# Altium integrated library Linear Technology PMIC-Switching Reg LT1074-LT8705.IntLib: 2252 symbols (part 78 of 124)
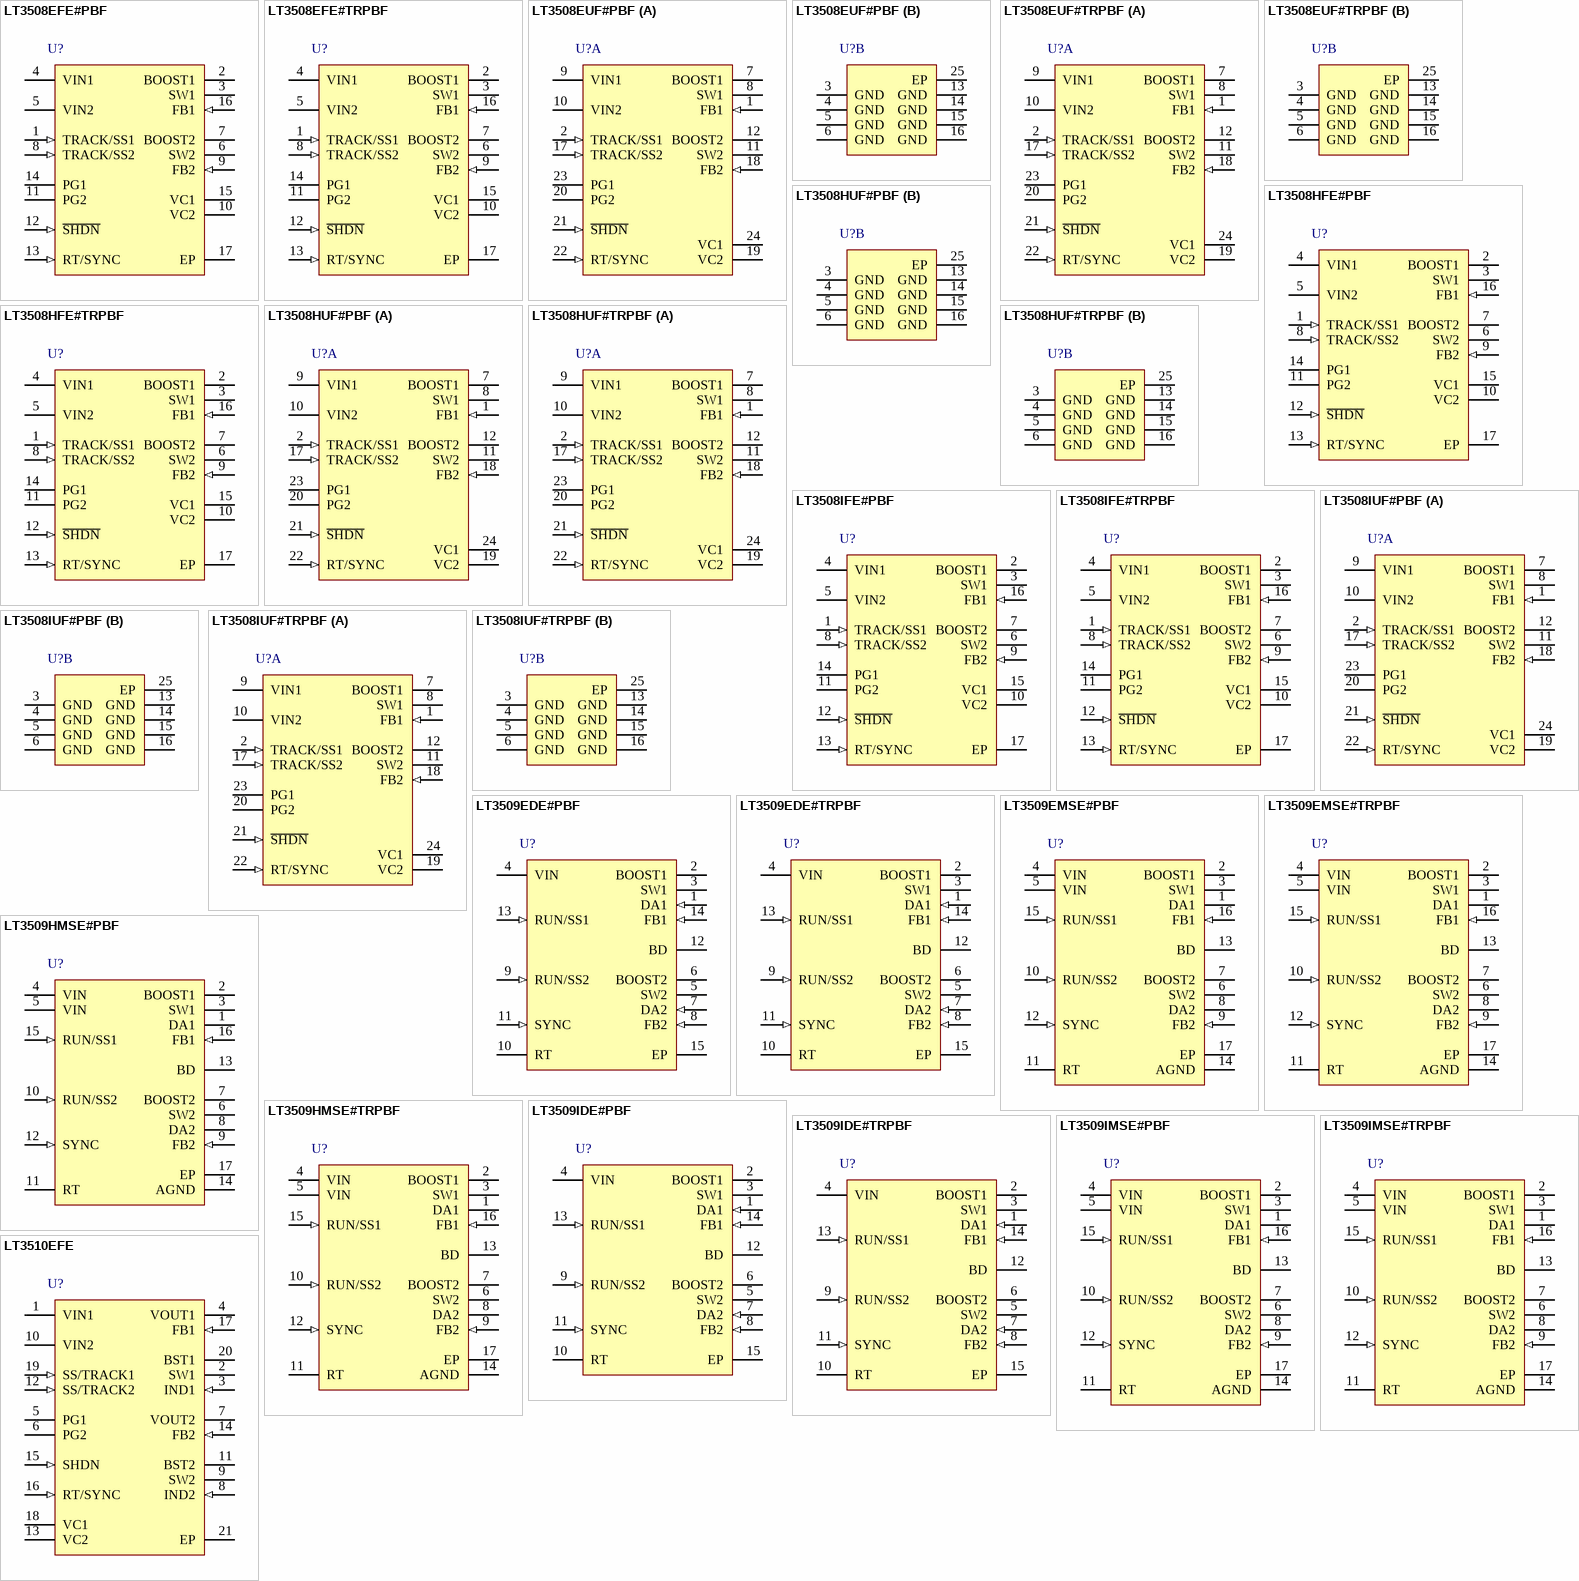
[diagram p148: symbols LT3508EFE#PBF to LT3510EFE]

## LT3510EFE
designator U?
Monolithic Dual Tracking 2 A Step-Down Switching Regulator, 20-pin SOP (FE-20-EPV-CB), -40 to 125 degC; Manufacturer: Linear Technology; PartNumber: LT3510EFE; Number of Outputs: 2; PackageReference: FE-20; PackageDescription: 20-Pin Plastic TSSOP, Body 6.5 x 4.4 mm, Pitch 0.65 mm; RoHS: FALSE
footprint LT-FE-20-EPV-CB_N (SOP, 20-Leads, Body 6.6x4.5mm, Pitch 0.65mm, Thermal Pad 3.86x2.74mm, IPC Medium Density)
footprint LT-FE-20-EPV-CB_L (SOP, 20-Leads, Body 6.6x4.5mm, Pitch 0.65mm, Thermal Pad 3.86x2.74mm, IPC High Density)
footprint LT-FE-20-EPV-CB_M (SOP, 20-Leads, Body 6.6x4.5mm, Pitch 0.65mm, Thermal Pad 3.86x2.74mm, IPC Low Density)
pins: 1 VIN1 (power) "The VIN1 pin powers the internal control circuitry for both channels and is monitored by the undervoltage lockout comparator. The VIN1 pin is also connected to the collector of channel 1’s on-chip power NPN switch. Th(See Datasheet)", 2 SW1 "The SW pin is the emitter of the onchip power NPN. At switch-off, the inductor will drive this pin below ground with a high dV/dt. An external Schottky catch diode to ground, close to the SW pin and respective VIN decoupling (See Datasheet)", 3 IND1 (in) "The IND pin is the input to the on-chip sense resistor that measures current flowing in the inductor. When the current in the resistor exceeds the current dictated by the VC pin, the SW latch is held in reset, disabling the (See Datasheet)", 4 VOUT1 (power) "The VOUT pin is the output to the on-chip sense resistor that measures current flowing in the inductor. When the current in the resistor exceeds the current dictated by the VC pin, the SW latch is held in reset, disabling (See Datasheet)", 5 PG1 (oc) "The power good pin is an open-collector output that sinks current when the feedback falls below 90% of its nominal regulating voltage. For VIN1 above 1V, its output state remains true, although during shutdown, VIN1 (See Datasheet)", 6 PG2 (oc) "The power good pin is an open-collector output that sinks current when the feedback falls below 90% of its nominal regulating voltage. For VIN1 above 1V, its output state remains true, although during shutdown, VIN1 (See Datasheet)", 7 VOUT2 (power) "The VOUT pin is the output to the on-chip sense resistor that measures current flowing in the inductor. When the current in the resistor exceeds the current dictated by the VC pin, the SW latch is held in reset, disabling (See Datasheet)", 8 IND2 (in) "The IND pin is the input to the on-chip sense resistor that measures current flowing in the inductor. When the current in the resistor exceeds the current dictated by the VC pin, the SW latch is held in reset, disabling the (See Datasheet)", 9 SW2 "The SW pin is the emitter of the onchip power NPN. At switch-off, the inductor will drive this pin below ground with a high dV/dt. An external Schottky catch diode to ground, close to the SW pin and respective VIN decoupling (See Datasheet)", 10 VIN2 (power) "The VIN2 pin is the collector of channel 2’s on-chip power NPN switch. This pin is independent of VIN1 and may be connected to the same or a separate supply. In either case, high dI/dt edges are present and decoupling t(See Datasheet)", 11 BST2 "The BST pin provides a higher than VIN base drive to the power NPN to ensure a low switch drop. A comparator to VIN imposes a minimum off-time on the SW pin if the BST pin voltage drops too low. Forcing a SW off-time allows (See Datasheet)", 12 SS/TRACK2 (in) "The SS1/2 pins control the softstart and sequence of their respective outputs. A single capacitor from the SS pin to ground determines the output ramp rate. For soft-start and output tracking/sequencing details, see the (See Datasheet)", 13 VC2 "The VC pin is the output of the error amplifier and the input to the peak switch current  comparator. It is normally used for frequency compensation, but can also be used as a current clamp or control loop override. If the (See Datasheet)", 14 FB2 (in) "The FB pin is the negative input to the error amplifier. The output switches regulate this pin to 0.8V, with respect to the exposed ground pad. Bias current flows out of the FB pin.", 15 SHDN (in) "The shutdown pin is used to turn off both channels and control circuitry to reduce quiescent current to a typical value of 9uA. The accurate 1.28V threshold and input current hysteresis can be used as an undervoltage (See Datasheet)", 16 RT/SYNC (in) "This RT/SYNC pin provides two modes of setting the constant switch frequency.", 17 FB1 (in) "The FB pin is the negative input to the error amplifier. The output switches regulate this pin to 0.8V, with respect to the exposed ground pad. Bias current flows out of the FB pin.", 18 VC1 "The VC pin is the output of the error amplifier and the input to the peak switch current  comparator. It is normally used for frequency compensation, but can also be used as a current clamp or control loop override. If the (See Datasheet)", 19 SS/TRACK1 (in) "The SS1/2 pins control the softstart and sequence of their respective outputs. A single capacitor from the SS pin to ground determines the output ramp rate. For soft-start and output tracking/sequencing details, see the (See Datasheet)", 20 BST1 "The BST pin provides a higher than VIN base drive to the power NPN to ensure a low switch drop. A comparator to VIN imposes a minimum off-time on the SW pin if the BST pin voltage drops too low. Forcing a SW off-time allows (See Datasheet)", 21 EP (power) "GND. The Exposed Pad GND pin is the only ground connection for the device. The Exposed Pad should be soldered to a large copper area to reduce thermal resistance. The GND pin is common to both channels and also serves as (See Datasheet)"

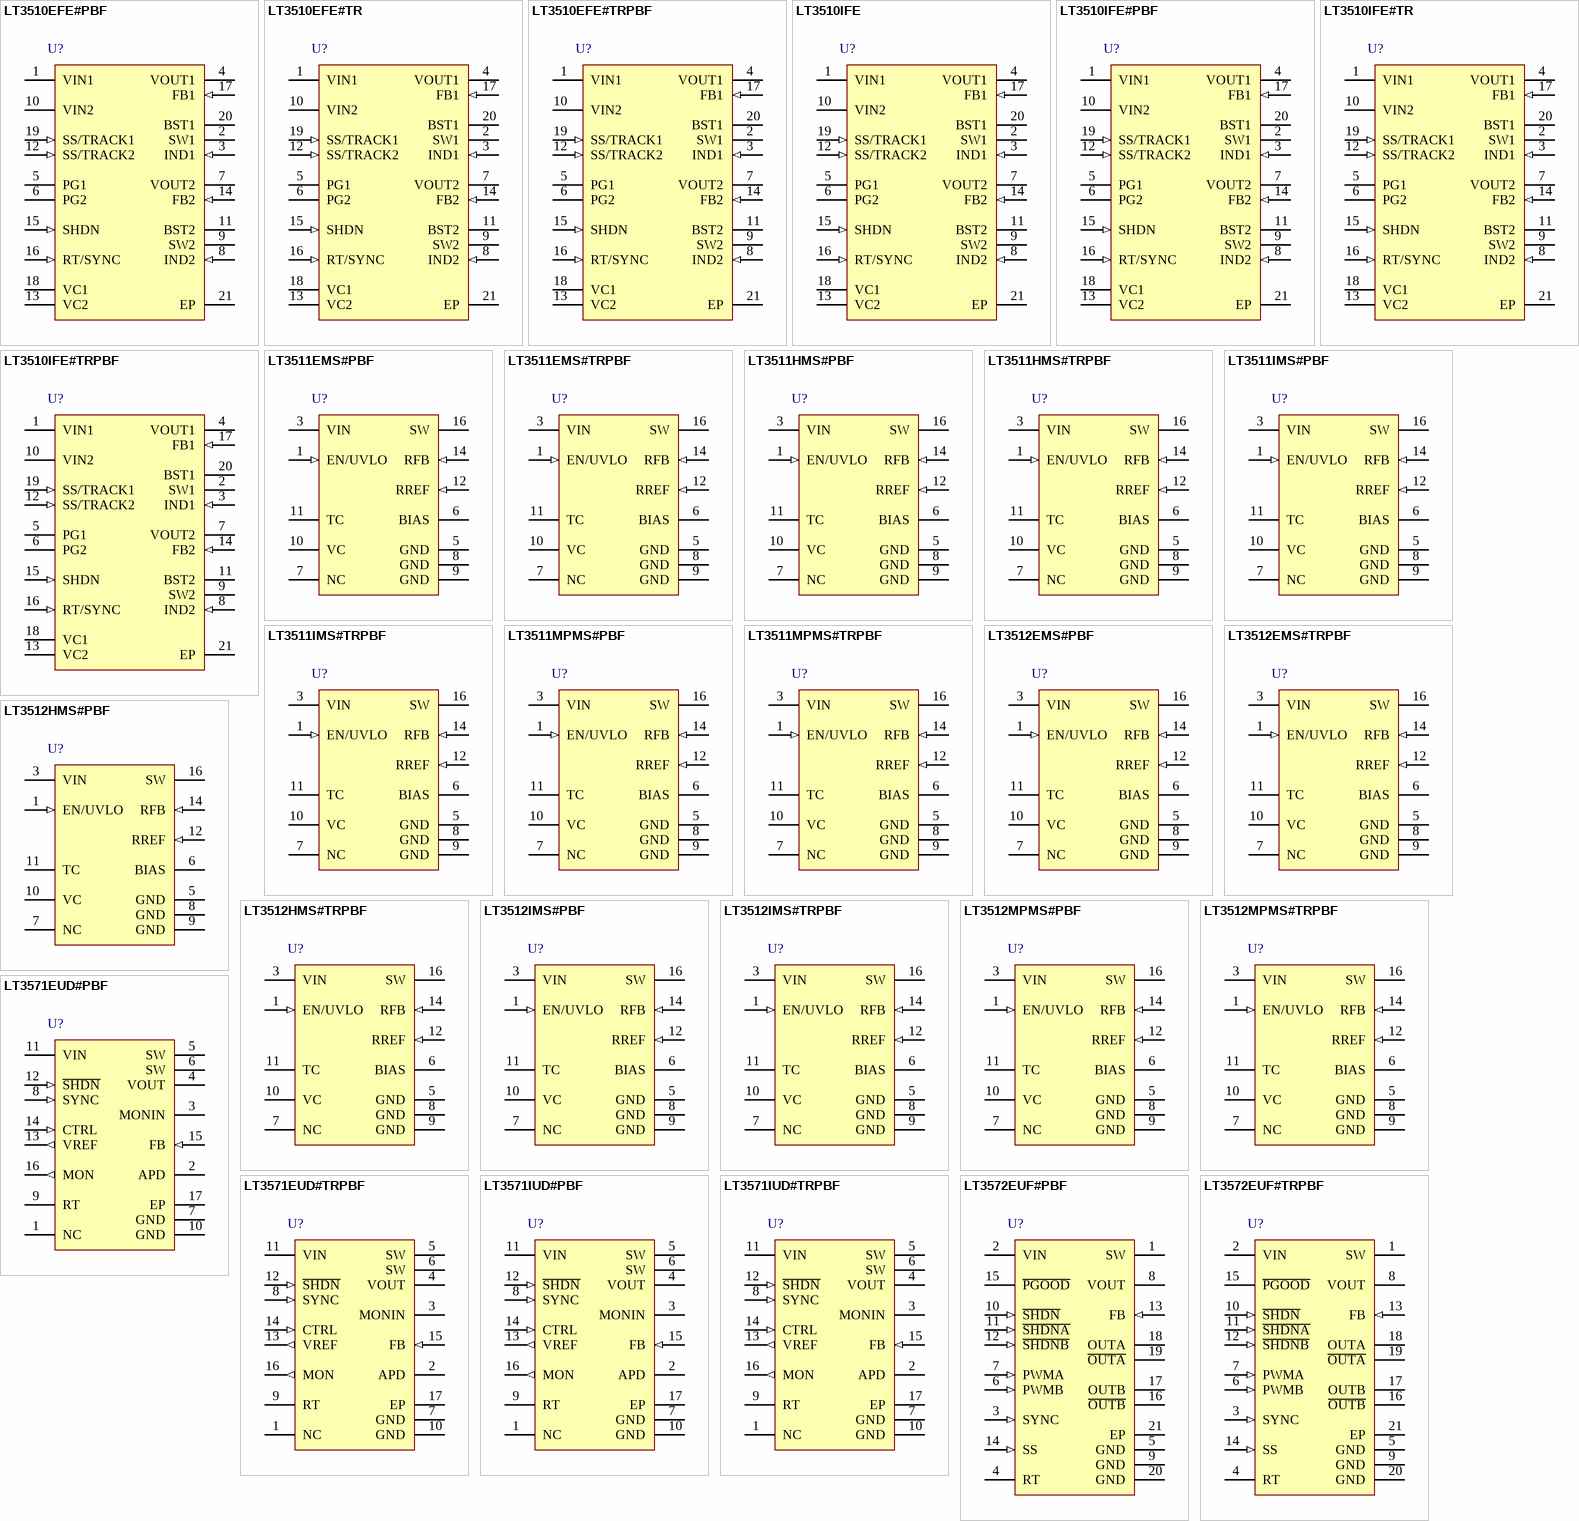
[diagram p47: symbols LT3510EFE#PBF to LT3572EUF#TRPBF]

## LT3510EFE#PBF
designator U?
Monolithic Dual Tracking 2 A Step-Down Switching Regulator, 20-pin SOP (FE-20-EPV-CB), -40 to 125 degC, Pb-Free; Manufacturer: Linear Technology; PartNumber: LT3510EFE#PBF; Number of Outputs: 2; PackageReference: FE-20; PackageDescription: 20-Pin Plastic TSSOP, Body 6.5 x 4.4 mm, Pitch 0.65 mm; Supplier 1: Digi-Key; Supplier Part Number 1: LT3510EFE#PBF-ND; RoHS: TRUE
footprint LT-FE-20-EPV-CB_N (SOP, 20-Leads, Body 6.6x4.5mm, Pitch 0.65mm, Thermal Pad 3.86x2.74mm, IPC Medium Density)
footprint LT-FE-20-EPV-CB_L (SOP, 20-Leads, Body 6.6x4.5mm, Pitch 0.65mm, Thermal Pad 3.86x2.74mm, IPC High Density)
footprint LT-FE-20-EPV-CB_M (SOP, 20-Leads, Body 6.6x4.5mm, Pitch 0.65mm, Thermal Pad 3.86x2.74mm, IPC Low Density)
pins: 1 VIN1 (power) "The VIN1 pin powers the internal control circuitry for both channels and is monitored by the undervoltage lockout comparator. The VIN1 pin is also connected to the collector of channel 1’s on-chip power NPN switch. Th(See Datasheet)", 2 SW1 "The SW pin is the emitter of the onchip power NPN. At switch-off, the inductor will drive this pin below ground with a high dV/dt. An external Schottky catch diode to ground, close to the SW pin and respective VIN decoupling (See Datasheet)", 3 IND1 (in) "The IND pin is the input to the on-chip sense resistor that measures current flowing in the inductor. When the current in the resistor exceeds the current dictated by the VC pin, the SW latch is held in reset, disabling the (See Datasheet)", 4 VOUT1 (power) "The VOUT pin is the output to the on-chip sense resistor that measures current flowing in the inductor. When the current in the resistor exceeds the current dictated by the VC pin, the SW latch is held in reset, disabling (See Datasheet)", 5 PG1 (oc) "The power good pin is an open-collector output that sinks current when the feedback falls below 90% of its nominal regulating voltage. For VIN1 above 1V, its output state remains true, although during shutdown, VIN1 (See Datasheet)", 6 PG2 (oc) "The power good pin is an open-collector output that sinks current when the feedback falls below 90% of its nominal regulating voltage. For VIN1 above 1V, its output state remains true, although during shutdown, VIN1 (See Datasheet)", 7 VOUT2 (power) "The VOUT pin is the output to the on-chip sense resistor that measures current flowing in the inductor. When the current in the resistor exceeds the current dictated by the VC pin, the SW latch is held in reset, disabling (See Datasheet)", 8 IND2 (in) "The IND pin is the input to the on-chip sense resistor that measures current flowing in the inductor. When the current in the resistor exceeds the current dictated by the VC pin, the SW latch is held in reset, disabling the (See Datasheet)", 9 SW2 "The SW pin is the emitter of the onchip power NPN. At switch-off, the inductor will drive this pin below ground with a high dV/dt. An external Schottky catch diode to ground, close to the SW pin and respective VIN decoupling (See Datasheet)", 10 VIN2 (power) "The VIN2 pin is the collector of channel 2’s on-chip power NPN switch. This pin is independent of VIN1 and may be connected to the same or a separate supply. In either case, high dI/dt edges are present and decoupling t(See Datasheet)", 11 BST2 "The BST pin provides a higher than VIN base drive to the power NPN to ensure a low switch drop. A comparator to VIN imposes a minimum off-time on the SW pin if the BST pin voltage drops too low. Forcing a SW off-time allows (See Datasheet)", 12 SS/TRACK2 (in) "The SS1/2 pins control the softstart and sequence of their respective outputs. A single capacitor from the SS pin to ground determines the output ramp rate. For soft-start and output tracking/sequencing details, see the (See Datasheet)", 13 VC2 "The VC pin is the output of the error amplifier and the input to the peak switch current  comparator. It is normally used for frequency compensation, but can also be used as a current clamp or control loop override. If the (See Datasheet)", 14 FB2 (in) "The FB pin is the negative input to the error amplifier. The output switches regulate this pin to 0.8V, with respect to the exposed ground pad. Bias current flows out of the FB pin.", 15 SHDN (in) "The shutdown pin is used to turn off both channels and control circuitry to reduce quiescent current to a typical value of 9uA. The accurate 1.28V threshold and input current hysteresis can be used as an undervoltage (See Datasheet)", 16 RT/SYNC (in) "This RT/SYNC pin provides two modes of setting the constant switch frequency.", 17 FB1 (in) "The FB pin is the negative input to the error amplifier. The output switches regulate this pin to 0.8V, with respect to the exposed ground pad. Bias current flows out of the FB pin.", 18 VC1 "The VC pin is the output of the error amplifier and the input to the peak switch current  comparator. It is normally used for frequency compensation, but can also be used as a current clamp or control loop override. If the (See Datasheet)", 19 SS/TRACK1 (in) "The SS1/2 pins control the softstart and sequence of their respective outputs. A single capacitor from the SS pin to ground determines the output ramp rate. For soft-start and output tracking/sequencing details, see the (See Datasheet)", 20 BST1 "The BST pin provides a higher than VIN base drive to the power NPN to ensure a low switch drop. A comparator to VIN imposes a minimum off-time on the SW pin if the BST pin voltage drops too low. Forcing a SW off-time allows (See Datasheet)", 21 EP (power) "GND. The Exposed Pad GND pin is the only ground connection for the device. The Exposed Pad should be soldered to a large copper area to reduce thermal resistance. The GND pin is common to both channels and also serves as (See Datasheet)"

## LT3510EFE#TR
designator U?
Monolithic Dual Tracking 2 A Step-Down Switching Regulator, 20-pin SOP (FE-20-EPV-CB), -40 to 125 degC, Tape and Reel; Manufacturer: Linear Technology; PartNumber: LT3510EFE#TR; Number of Outputs: 2; PackageReference: FE-20; PackageDescription: 20-Pin Plastic TSSOP, Body 6.5 x 4.4 mm, Pitch 0.65 mm; RoHS: FALSE
footprint LT-FE-20-EPV-CB_N (SOP, 20-Leads, Body 6.6x4.5mm, Pitch 0.65mm, Thermal Pad 3.86x2.74mm, IPC Medium Density)
footprint LT-FE-20-EPV-CB_L (SOP, 20-Leads, Body 6.6x4.5mm, Pitch 0.65mm, Thermal Pad 3.86x2.74mm, IPC High Density)
footprint LT-FE-20-EPV-CB_M (SOP, 20-Leads, Body 6.6x4.5mm, Pitch 0.65mm, Thermal Pad 3.86x2.74mm, IPC Low Density)
pins: 1 VIN1 (power) "The VIN1 pin powers the internal control circuitry for both channels and is monitored by the undervoltage lockout comparator. The VIN1 pin is also connected to the collector of channel 1’s on-chip power NPN switch. Th(See Datasheet)", 2 SW1 "The SW pin is the emitter of the onchip power NPN. At switch-off, the inductor will drive this pin below ground with a high dV/dt. An external Schottky catch diode to ground, close to the SW pin and respective VIN decoupling (See Datasheet)", 3 IND1 (in) "The IND pin is the input to the on-chip sense resistor that measures current flowing in the inductor. When the current in the resistor exceeds the current dictated by the VC pin, the SW latch is held in reset, disabling the (See Datasheet)", 4 VOUT1 (power) "The VOUT pin is the output to the on-chip sense resistor that measures current flowing in the inductor. When the current in the resistor exceeds the current dictated by the VC pin, the SW latch is held in reset, disabling (See Datasheet)", 5 PG1 (oc) "The power good pin is an open-collector output that sinks current when the feedback falls below 90% of its nominal regulating voltage. For VIN1 above 1V, its output state remains true, although during shutdown, VIN1 (See Datasheet)", 6 PG2 (oc) "The power good pin is an open-collector output that sinks current when the feedback falls below 90% of its nominal regulating voltage. For VIN1 above 1V, its output state remains true, although during shutdown, VIN1 (See Datasheet)", 7 VOUT2 (power) "The VOUT pin is the output to the on-chip sense resistor that measures current flowing in the inductor. When the current in the resistor exceeds the current dictated by the VC pin, the SW latch is held in reset, disabling (See Datasheet)", 8 IND2 (in) "The IND pin is the input to the on-chip sense resistor that measures current flowing in the inductor. When the current in the resistor exceeds the current dictated by the VC pin, the SW latch is held in reset, disabling the (See Datasheet)", 9 SW2 "The SW pin is the emitter of the onchip power NPN. At switch-off, the inductor will drive this pin below ground with a high dV/dt. An external Schottky catch diode to ground, close to the SW pin and respective VIN decoupling (See Datasheet)", 10 VIN2 (power) "The VIN2 pin is the collector of channel 2’s on-chip power NPN switch. This pin is independent of VIN1 and may be connected to the same or a separate supply. In either case, high dI/dt edges are present and decoupling t(See Datasheet)", 11 BST2 "The BST pin provides a higher than VIN base drive to the power NPN to ensure a low switch drop. A comparator to VIN imposes a minimum off-time on the SW pin if the BST pin voltage drops too low. Forcing a SW off-time allows (See Datasheet)", 12 SS/TRACK2 (in) "The SS1/2 pins control the softstart and sequence of their respective outputs. A single capacitor from the SS pin to ground determines the output ramp rate. For soft-start and output tracking/sequencing details, see the (See Datasheet)", 13 VC2 "The VC pin is the output of the error amplifier and the input to the peak switch current  comparator. It is normally used for frequency compensation, but can also be used as a current clamp or control loop override. If the (See Datasheet)", 14 FB2 (in) "The FB pin is the negative input to the error amplifier. The output switches regulate this pin to 0.8V, with respect to the exposed ground pad. Bias current flows out of the FB pin.", 15 SHDN (in) "The shutdown pin is used to turn off both channels and control circuitry to reduce quiescent current to a typical value of 9uA. The accurate 1.28V threshold and input current hysteresis can be used as an undervoltage (See Datasheet)", 16 RT/SYNC (in) "This RT/SYNC pin provides two modes of setting the constant switch frequency.", 17 FB1 (in) "The FB pin is the negative input to the error amplifier. The output switches regulate this pin to 0.8V, with respect to the exposed ground pad. Bias current flows out of the FB pin.", 18 VC1 "The VC pin is the output of the error amplifier and the input to the peak switch current  comparator. It is normally used for frequency compensation, but can also be used as a current clamp or control loop override. If the (See Datasheet)", 19 SS/TRACK1 (in) "The SS1/2 pins control the softstart and sequence of their respective outputs. A single capacitor from the SS pin to ground determines the output ramp rate. For soft-start and output tracking/sequencing details, see the (See Datasheet)", 20 BST1 "The BST pin provides a higher than VIN base drive to the power NPN to ensure a low switch drop. A comparator to VIN imposes a minimum off-time on the SW pin if the BST pin voltage drops too low. Forcing a SW off-time allows (See Datasheet)", 21 EP (power) "GND. The Exposed Pad GND pin is the only ground connection for the device. The Exposed Pad should be soldered to a large copper area to reduce thermal resistance. The GND pin is common to both channels and also serves as (See Datasheet)"

## LT3510EFE#TRPBF
designator U?
Monolithic Dual Tracking 2 A Step-Down Switching Regulator, 20-pin SOP (FE-20-EPV-CB), -40 to 125 degC, Pb-Free, Tape and Reel; Manufacturer: Linear Technology; PartNumber: LT3510EFE#TRPBF; Number of Outputs: 2; PackageReference: FE-20; PackageDescription: 20-Pin Plastic TSSOP, Body 6.5 x 4.4 mm, Pitch 0.65 mm; Supplier 1: Digi-Key; Supplier Part Number 1: LT3510EFE#TRPBF-ND; RoHS: TRUE
footprint LT-FE-20-EPV-CB_N (SOP, 20-Leads, Body 6.6x4.5mm, Pitch 0.65mm, Thermal Pad 3.86x2.74mm, IPC Medium Density)
footprint LT-FE-20-EPV-CB_L (SOP, 20-Leads, Body 6.6x4.5mm, Pitch 0.65mm, Thermal Pad 3.86x2.74mm, IPC High Density)
footprint LT-FE-20-EPV-CB_M (SOP, 20-Leads, Body 6.6x4.5mm, Pitch 0.65mm, Thermal Pad 3.86x2.74mm, IPC Low Density)
pins: 1 VIN1 (power) "The VIN1 pin powers the internal control circuitry for both channels and is monitored by the undervoltage lockout comparator. The VIN1 pin is also connected to the collector of channel 1’s on-chip power NPN switch. Th(See Datasheet)", 2 SW1 "The SW pin is the emitter of the onchip power NPN. At switch-off, the inductor will drive this pin below ground with a high dV/dt. An external Schottky catch diode to ground, close to the SW pin and respective VIN decoupling (See Datasheet)", 3 IND1 (in) "The IND pin is the input to the on-chip sense resistor that measures current flowing in the inductor. When the current in the resistor exceeds the current dictated by the VC pin, the SW latch is held in reset, disabling the (See Datasheet)", 4 VOUT1 (power) "The VOUT pin is the output to the on-chip sense resistor that measures current flowing in the inductor. When the current in the resistor exceeds the current dictated by the VC pin, the SW latch is held in reset, disabling (See Datasheet)", 5 PG1 (oc) "The power good pin is an open-collector output that sinks current when the feedback falls below 90% of its nominal regulating voltage. For VIN1 above 1V, its output state remains true, although during shutdown, VIN1 (See Datasheet)", 6 PG2 (oc) "The power good pin is an open-collector output that sinks current when the feedback falls below 90% of its nominal regulating voltage. For VIN1 above 1V, its output state remains true, although during shutdown, VIN1 (See Datasheet)", 7 VOUT2 (power) "The VOUT pin is the output to the on-chip sense resistor that measures current flowing in the inductor. When the current in the resistor exceeds the current dictated by the VC pin, the SW latch is held in reset, disabling (See Datasheet)", 8 IND2 (in) "The IND pin is the input to the on-chip sense resistor that measures current flowing in the inductor. When the current in the resistor exceeds the current dictated by the VC pin, the SW latch is held in reset, disabling the (See Datasheet)", 9 SW2 "The SW pin is the emitter of the onchip power NPN. At switch-off, the inductor will drive this pin below ground with a high dV/dt. An external Schottky catch diode to ground, close to the SW pin and respective VIN decoupling (See Datasheet)", 10 VIN2 (power) "The VIN2 pin is the collector of channel 2’s on-chip power NPN switch. This pin is independent of VIN1 and may be connected to the same or a separate supply. In either case, high dI/dt edges are present and decoupling t(See Datasheet)", 11 BST2 "The BST pin provides a higher than VIN base drive to the power NPN to ensure a low switch drop. A comparator to VIN imposes a minimum off-time on the SW pin if the BST pin voltage drops too low. Forcing a SW off-time allows (See Datasheet)", 12 SS/TRACK2 (in) "The SS1/2 pins control the softstart and sequence of their respective outputs. A single capacitor from the SS pin to ground determines the output ramp rate. For soft-start and output tracking/sequencing details, see the (See Datasheet)", 13 VC2 "The VC pin is the output of the error amplifier and the input to the peak switch current  comparator. It is normally used for frequency compensation, but can also be used as a current clamp or control loop override. If the (See Datasheet)", 14 FB2 (in) "The FB pin is the negative input to the error amplifier. The output switches regulate this pin to 0.8V, with respect to the exposed ground pad. Bias current flows out of the FB pin.", 15 SHDN (in) "The shutdown pin is used to turn off both channels and control circuitry to reduce quiescent current to a typical value of 9uA. The accurate 1.28V threshold and input current hysteresis can be used as an undervoltage (See Datasheet)", 16 RT/SYNC (in) "This RT/SYNC pin provides two modes of setting the constant switch frequency.", 17 FB1 (in) "The FB pin is the negative input to the error amplifier. The output switches regulate this pin to 0.8V, with respect to the exposed ground pad. Bias current flows out of the FB pin.", 18 VC1 "The VC pin is the output of the error amplifier and the input to the peak switch current  comparator. It is normally used for frequency compensation, but can also be used as a current clamp or control loop override. If the (See Datasheet)", 19 SS/TRACK1 (in) "The SS1/2 pins control the softstart and sequence of their respective outputs. A single capacitor from the SS pin to ground determines the output ramp rate. For soft-start and output tracking/sequencing details, see the (See Datasheet)", 20 BST1 "The BST pin provides a higher than VIN base drive to the power NPN to ensure a low switch drop. A comparator to VIN imposes a minimum off-time on the SW pin if the BST pin voltage drops too low. Forcing a SW off-time allows (See Datasheet)", 21 EP (power) "GND. The Exposed Pad GND pin is the only ground connection for the device. The Exposed Pad should be soldered to a large copper area to reduce thermal resistance. The GND pin is common to both channels and also serves as (See Datasheet)"

## LT3510IFE
designator U?
Monolithic Dual Tracking 2 A Step-Down Switching Regulator, 20-pin SOP (FE-20-EPV-CB), -40 to 125 degC; Manufacturer: Linear Technology; PartNumber: LT3510IFE; Number of Outputs: 2; PackageReference: FE-20; PackageDescription: 20-Pin Plastic TSSOP, Body 6.5 x 4.4 mm, Pitch 0.65 mm; RoHS: FALSE
footprint LT-FE-20-EPV-CB_N (SOP, 20-Leads, Body 6.6x4.5mm, Pitch 0.65mm, Thermal Pad 3.86x2.74mm, IPC Medium Density)
footprint LT-FE-20-EPV-CB_L (SOP, 20-Leads, Body 6.6x4.5mm, Pitch 0.65mm, Thermal Pad 3.86x2.74mm, IPC High Density)
footprint LT-FE-20-EPV-CB_M (SOP, 20-Leads, Body 6.6x4.5mm, Pitch 0.65mm, Thermal Pad 3.86x2.74mm, IPC Low Density)
pins: 1 VIN1 (power) "The VIN1 pin powers the internal control circuitry for both channels and is monitored by the undervoltage lockout comparator. The VIN1 pin is also connected to the collector of channel 1’s on-chip power NPN switch. Th(See Datasheet)", 2 SW1 "The SW pin is the emitter of the onchip power NPN. At switch-off, the inductor will drive this pin below ground with a high dV/dt. An external Schottky catch diode to ground, close to the SW pin and respective VIN decoupling (See Datasheet)", 3 IND1 (in) "The IND pin is the input to the on-chip sense resistor that measures current flowing in the inductor. When the current in the resistor exceeds the current dictated by the VC pin, the SW latch is held in reset, disabling the (See Datasheet)", 4 VOUT1 (power) "The VOUT pin is the output to the on-chip sense resistor that measures current flowing in the inductor. When the current in the resistor exceeds the current dictated by the VC pin, the SW latch is held in reset, disabling (See Datasheet)", 5 PG1 (oc) "The power good pin is an open-collector output that sinks current when the feedback falls below 90% of its nominal regulating voltage. For VIN1 above 1V, its output state remains true, although during shutdown, VIN1 (See Datasheet)", 6 PG2 (oc) "The power good pin is an open-collector output that sinks current when the feedback falls below 90% of its nominal regulating voltage. For VIN1 above 1V, its output state remains true, although during shutdown, VIN1 (See Datasheet)", 7 VOUT2 (power) "The VOUT pin is the output to the on-chip sense resistor that measures current flowing in the inductor. When the current in the resistor exceeds the current dictated by the VC pin, the SW latch is held in reset, disabling (See Datasheet)", 8 IND2 (in) "The IND pin is the input to the on-chip sense resistor that measures current flowing in the inductor. When the current in the resistor exceeds the current dictated by the VC pin, the SW latch is held in reset, disabling the (See Datasheet)", 9 SW2 "The SW pin is the emitter of the onchip power NPN. At switch-off, the inductor will drive this pin below ground with a high dV/dt. An external Schottky catch diode to ground, close to the SW pin and respective VIN decoupling (See Datasheet)", 10 VIN2 (power) "The VIN2 pin is the collector of channel 2’s on-chip power NPN switch. This pin is independent of VIN1 and may be connected to the same or a separate supply. In either case, high dI/dt edges are present and decoupling t(See Datasheet)", 11 BST2 "The BST pin provides a higher than VIN base drive to the power NPN to ensure a low switch drop. A comparator to VIN imposes a minimum off-time on the SW pin if the BST pin voltage drops too low. Forcing a SW off-time allows (See Datasheet)", 12 SS/TRACK2 (in) "The SS1/2 pins control the softstart and sequence of their respective outputs. A single capacitor from the SS pin to ground determines the output ramp rate. For soft-start and output tracking/sequencing details, see the (See Datasheet)", 13 VC2 "The VC pin is the output of the error amplifier and the input to the peak switch current  comparator. It is normally used for frequency compensation, but can also be used as a current clamp or control loop override. If the (See Datasheet)", 14 FB2 (in) "The FB pin is the negative input to the error amplifier. The output switches regulate this pin to 0.8V, with respect to the exposed ground pad. Bias current flows out of the FB pin.", 15 SHDN (in) "The shutdown pin is used to turn off both channels and control circuitry to reduce quiescent current to a typical value of 9uA. The accurate 1.28V threshold and input current hysteresis can be used as an undervoltage (See Datasheet)", 16 RT/SYNC (in) "This RT/SYNC pin provides two modes of setting the constant switch frequency.", 17 FB1 (in) "The FB pin is the negative input to the error amplifier. The output switches regulate this pin to 0.8V, with respect to the exposed ground pad. Bias current flows out of the FB pin.", 18 VC1 "The VC pin is the output of the error amplifier and the input to the peak switch current  comparator. It is normally used for frequency compensation, but can also be used as a current clamp or control loop override. If the (See Datasheet)", 19 SS/TRACK1 (in) "The SS1/2 pins control the softstart and sequence of their respective outputs. A single capacitor from the SS pin to ground determines the output ramp rate. For soft-start and output tracking/sequencing details, see the (See Datasheet)", 20 BST1 "The BST pin provides a higher than VIN base drive to the power NPN to ensure a low switch drop. A comparator to VIN imposes a minimum off-time on the SW pin if the BST pin voltage drops too low. Forcing a SW off-time allows (See Datasheet)", 21 EP (power) "GND. The Exposed Pad GND pin is the only ground connection for the device. The Exposed Pad should be soldered to a large copper area to reduce thermal resistance. The GND pin is common to both channels and also serves as (See Datasheet)"

## LT3510IFE#PBF
designator U?
Monolithic Dual Tracking 2 A Step-Down Switching Regulator, 20-pin SOP (FE-20-EPV-CB), -40 to 125 degC, Pb-Free; Manufacturer: Linear Technology; PartNumber: LT3510IFE#PBF; Number of Outputs: 2; PackageReference: FE-20; PackageDescription: 20-Pin Plastic TSSOP, Body 6.5 x 4.4 mm, Pitch 0.65 mm; Supplier 1: Digi-Key; Supplier Part Number 1: LT3510IFE#PBF-ND; RoHS: TRUE
footprint LT-FE-20-EPV-CB_N (SOP, 20-Leads, Body 6.6x4.5mm, Pitch 0.65mm, Thermal Pad 3.86x2.74mm, IPC Medium Density)
footprint LT-FE-20-EPV-CB_L (SOP, 20-Leads, Body 6.6x4.5mm, Pitch 0.65mm, Thermal Pad 3.86x2.74mm, IPC High Density)
footprint LT-FE-20-EPV-CB_M (SOP, 20-Leads, Body 6.6x4.5mm, Pitch 0.65mm, Thermal Pad 3.86x2.74mm, IPC Low Density)
pins: 1 VIN1 (power) "The VIN1 pin powers the internal control circuitry for both channels and is monitored by the undervoltage lockout comparator. The VIN1 pin is also connected to the collector of channel 1’s on-chip power NPN switch. Th(See Datasheet)", 2 SW1 "The SW pin is the emitter of the onchip power NPN. At switch-off, the inductor will drive this pin below ground with a high dV/dt. An external Schottky catch diode to ground, close to the SW pin and respective VIN decoupling (See Datasheet)", 3 IND1 (in) "The IND pin is the input to the on-chip sense resistor that measures current flowing in the inductor. When the current in the resistor exceeds the current dictated by the VC pin, the SW latch is held in reset, disabling the (See Datasheet)", 4 VOUT1 (power) "The VOUT pin is the output to the on-chip sense resistor that measures current flowing in the inductor. When the current in the resistor exceeds the current dictated by the VC pin, the SW latch is held in reset, disabling (See Datasheet)", 5 PG1 (oc) "The power good pin is an open-collector output that sinks current when the feedback falls below 90% of its nominal regulating voltage. For VIN1 above 1V, its output state remains true, although during shutdown, VIN1 (See Datasheet)", 6 PG2 (oc) "The power good pin is an open-collector output that sinks current when the feedback falls below 90% of its nominal regulating voltage. For VIN1 above 1V, its output state remains true, although during shutdown, VIN1 (See Datasheet)", 7 VOUT2 (power) "The VOUT pin is the output to the on-chip sense resistor that measures current flowing in the inductor. When the current in the resistor exceeds the current dictated by the VC pin, the SW latch is held in reset, disabling (See Datasheet)", 8 IND2 (in) "The IND pin is the input to the on-chip sense resistor that measures current flowing in the inductor. When the current in the resistor exceeds the current dictated by the VC pin, the SW latch is held in reset, disabling the (See Datasheet)", 9 SW2 "The SW pin is the emitter of the onchip power NPN. At switch-off, the inductor will drive this pin below ground with a high dV/dt. An external Schottky catch diode to ground, close to the SW pin and respective VIN decoupling (See Datasheet)", 10 VIN2 (power) "The VIN2 pin is the collector of channel 2’s on-chip power NPN switch. This pin is independent of VIN1 and may be connected to the same or a separate supply. In either case, high dI/dt edges are present and decoupling t(See Datasheet)", 11 BST2 "The BST pin provides a higher than VIN base drive to the power NPN to ensure a low switch drop. A comparator to VIN imposes a minimum off-time on the SW pin if the BST pin voltage drops too low. Forcing a SW off-time allows (See Datasheet)", 12 SS/TRACK2 (in) "The SS1/2 pins control the softstart and sequence of their respective outputs. A single capacitor from the SS pin to ground determines the output ramp rate. For soft-start and output tracking/sequencing details, see the (See Datasheet)", 13 VC2 "The VC pin is the output of the error amplifier and the input to the peak switch current  comparator. It is normally used for frequency compensation, but can also be used as a current clamp or control loop override. If the (See Datasheet)", 14 FB2 (in) "The FB pin is the negative input to the error amplifier. The output switches regulate this pin to 0.8V, with respect to the exposed ground pad. Bias current flows out of the FB pin.", 15 SHDN (in) "The shutdown pin is used to turn off both channels and control circuitry to reduce quiescent current to a typical value of 9uA. The accurate 1.28V threshold and input current hysteresis can be used as an undervoltage (See Datasheet)", 16 RT/SYNC (in) "This RT/SYNC pin provides two modes of setting the constant switch frequency.", 17 FB1 (in) "The FB pin is the negative input to the error amplifier. The output switches regulate this pin to 0.8V, with respect to the exposed ground pad. Bias current flows out of the FB pin.", 18 VC1 "The VC pin is the output of the error amplifier and the input to the peak switch current  comparator. It is normally used for frequency compensation, but can also be used as a current clamp or control loop override. If the (See Datasheet)", 19 SS/TRACK1 (in) "The SS1/2 pins control the softstart and sequence of their respective outputs. A single capacitor from the SS pin to ground determines the output ramp rate. For soft-start and output tracking/sequencing details, see the (See Datasheet)", 20 BST1 "The BST pin provides a higher than VIN base drive to the power NPN to ensure a low switch drop. A comparator to VIN imposes a minimum off-time on the SW pin if the BST pin voltage drops too low. Forcing a SW off-time allows (See Datasheet)", 21 EP (power) "GND. The Exposed Pad GND pin is the only ground connection for the device. The Exposed Pad should be soldered to a large copper area to reduce thermal resistance. The GND pin is common to both channels and also serves as (See Datasheet)"

## LT3510IFE#TR
designator U?
Monolithic Dual Tracking 2 A Step-Down Switching Regulator, 20-pin SOP (FE-20-EPV-CB), -40 to 125 degC, Tape and Reel; Manufacturer: Linear Technology; PartNumber: LT3510IFE#TR; Number of Outputs: 2; PackageReference: FE-20; PackageDescription: 20-Pin Plastic TSSOP, Body 6.5 x 4.4 mm, Pitch 0.65 mm; RoHS: FALSE
footprint LT-FE-20-EPV-CB_N (SOP, 20-Leads, Body 6.6x4.5mm, Pitch 0.65mm, Thermal Pad 3.86x2.74mm, IPC Medium Density)
footprint LT-FE-20-EPV-CB_L (SOP, 20-Leads, Body 6.6x4.5mm, Pitch 0.65mm, Thermal Pad 3.86x2.74mm, IPC High Density)
footprint LT-FE-20-EPV-CB_M (SOP, 20-Leads, Body 6.6x4.5mm, Pitch 0.65mm, Thermal Pad 3.86x2.74mm, IPC Low Density)
pins: 1 VIN1 (power) "The VIN1 pin powers the internal control circuitry for both channels and is monitored by the undervoltage lockout comparator. The VIN1 pin is also connected to the collector of channel 1’s on-chip power NPN switch. Th(See Datasheet)", 2 SW1 "The SW pin is the emitter of the onchip power NPN. At switch-off, the inductor will drive this pin below ground with a high dV/dt. An external Schottky catch diode to ground, close to the SW pin and respective VIN decoupling (See Datasheet)", 3 IND1 (in) "The IND pin is the input to the on-chip sense resistor that measures current flowing in the inductor. When the current in the resistor exceeds the current dictated by the VC pin, the SW latch is held in reset, disabling the (See Datasheet)", 4 VOUT1 (power) "The VOUT pin is the output to the on-chip sense resistor that measures current flowing in the inductor. When the current in the resistor exceeds the current dictated by the VC pin, the SW latch is held in reset, disabling (See Datasheet)", 5 PG1 (oc) "The power good pin is an open-collector output that sinks current when the feedback falls below 90% of its nominal regulating voltage. For VIN1 above 1V, its output state remains true, although during shutdown, VIN1 (See Datasheet)", 6 PG2 (oc) "The power good pin is an open-collector output that sinks current when the feedback falls below 90% of its nominal regulating voltage. For VIN1 above 1V, its output state remains true, although during shutdown, VIN1 (See Datasheet)", 7 VOUT2 (power) "The VOUT pin is the output to the on-chip sense resistor that measures current flowing in the inductor. When the current in the resistor exceeds the current dictated by the VC pin, the SW latch is held in reset, disabling (See Datasheet)", 8 IND2 (in) "The IND pin is the input to the on-chip sense resistor that measures current flowing in the inductor. When the current in the resistor exceeds the current dictated by the VC pin, the SW latch is held in reset, disabling the (See Datasheet)", 9 SW2 "The SW pin is the emitter of the onchip power NPN. At switch-off, the inductor will drive this pin below ground with a high dV/dt. An external Schottky catch diode to ground, close to the SW pin and respective VIN decoupling (See Datasheet)", 10 VIN2 (power) "The VIN2 pin is the collector of channel 2’s on-chip power NPN switch. This pin is independent of VIN1 and may be connected to the same or a separate supply. In either case, high dI/dt edges are present and decoupling t(See Datasheet)", 11 BST2 "The BST pin provides a higher than VIN base drive to the power NPN to ensure a low switch drop. A comparator to VIN imposes a minimum off-time on the SW pin if the BST pin voltage drops too low. Forcing a SW off-time allows (See Datasheet)", 12 SS/TRACK2 (in) "The SS1/2 pins control the softstart and sequence of their respective outputs. A single capacitor from the SS pin to ground determines the output ramp rate. For soft-start and output tracking/sequencing details, see the (See Datasheet)", 13 VC2 "The VC pin is the output of the error amplifier and the input to the peak switch current  comparator. It is normally used for frequency compensation, but can also be used as a current clamp or control loop override. If the (See Datasheet)", 14 FB2 (in) "The FB pin is the negative input to the error amplifier. The output switches regulate this pin to 0.8V, with respect to the exposed ground pad. Bias current flows out of the FB pin.", 15 SHDN (in) "The shutdown pin is used to turn off both channels and control circuitry to reduce quiescent current to a typical value of 9uA. The accurate 1.28V threshold and input current hysteresis can be used as an undervoltage (See Datasheet)", 16 RT/SYNC (in) "This RT/SYNC pin provides two modes of setting the constant switch frequency.", 17 FB1 (in) "The FB pin is the negative input to the error amplifier. The output switches regulate this pin to 0.8V, with respect to the exposed ground pad. Bias current flows out of the FB pin.", 18 VC1 "The VC pin is the output of the error amplifier and the input to the peak switch current  comparator. It is normally used for frequency compensation, but can also be used as a current clamp or control loop override. If the (See Datasheet)", 19 SS/TRACK1 (in) "The SS1/2 pins control the softstart and sequence of their respective outputs. A single capacitor from the SS pin to ground determines the output ramp rate. For soft-start and output tracking/sequencing details, see the (See Datasheet)", 20 BST1 "The BST pin provides a higher than VIN base drive to the power NPN to ensure a low switch drop. A comparator to VIN imposes a minimum off-time on the SW pin if the BST pin voltage drops too low. Forcing a SW off-time allows (See Datasheet)", 21 EP (power) "GND. The Exposed Pad GND pin is the only ground connection for the device. The Exposed Pad should be soldered to a large copper area to reduce thermal resistance. The GND pin is common to both channels and also serves as (See Datasheet)"

## LT3510IFE#TRPBF
designator U?
Monolithic Dual Tracking 2 A Step-Down Switching Regulator, 20-pin SOP (FE-20-EPV-CB), -40 to 125 degC, Pb-Free, Tape and Reel; Manufacturer: Linear Technology; PartNumber: LT3510IFE#TRPBF; Number of Outputs: 2; PackageReference: FE-20; PackageDescription: 20-Pin Plastic TSSOP, Body 6.5 x 4.4 mm, Pitch 0.65 mm; Supplier 1: Digi-Key; Supplier Part Number 1: LT3510IFE#TRPBF-ND; RoHS: TRUE
footprint LT-FE-20-EPV-CB_N (SOP, 20-Leads, Body 6.6x4.5mm, Pitch 0.65mm, Thermal Pad 3.86x2.74mm, IPC Medium Density)
footprint LT-FE-20-EPV-CB_L (SOP, 20-Leads, Body 6.6x4.5mm, Pitch 0.65mm, Thermal Pad 3.86x2.74mm, IPC High Density)
footprint LT-FE-20-EPV-CB_M (SOP, 20-Leads, Body 6.6x4.5mm, Pitch 0.65mm, Thermal Pad 3.86x2.74mm, IPC Low Density)
pins: 1 VIN1 (power) "The VIN1 pin powers the internal control circuitry for both channels and is monitored by the undervoltage lockout comparator. The VIN1 pin is also connected to the collector of channel 1’s on-chip power NPN switch. Th(See Datasheet)", 2 SW1 "The SW pin is the emitter of the onchip power NPN. At switch-off, the inductor will drive this pin below ground with a high dV/dt. An external Schottky catch diode to ground, close to the SW pin and respective VIN decoupling (See Datasheet)", 3 IND1 (in) "The IND pin is the input to the on-chip sense resistor that measures current flowing in the inductor. When the current in the resistor exceeds the current dictated by the VC pin, the SW latch is held in reset, disabling the (See Datasheet)", 4 VOUT1 (power) "The VOUT pin is the output to the on-chip sense resistor that measures current flowing in the inductor. When the current in the resistor exceeds the current dictated by the VC pin, the SW latch is held in reset, disabling (See Datasheet)", 5 PG1 (oc) "The power good pin is an open-collector output that sinks current when the feedback falls below 90% of its nominal regulating voltage. For VIN1 above 1V, its output state remains true, although during shutdown, VIN1 (See Datasheet)", 6 PG2 (oc) "The power good pin is an open-collector output that sinks current when the feedback falls below 90% of its nominal regulating voltage. For VIN1 above 1V, its output state remains true, although during shutdown, VIN1 (See Datasheet)", 7 VOUT2 (power) "The VOUT pin is the output to the on-chip sense resistor that measures current flowing in the inductor. When the current in the resistor exceeds the current dictated by the VC pin, the SW latch is held in reset, disabling (See Datasheet)", 8 IND2 (in) "The IND pin is the input to the on-chip sense resistor that measures current flowing in the inductor. When the current in the resistor exceeds the current dictated by the VC pin, the SW latch is held in reset, disabling the (See Datasheet)", 9 SW2 "The SW pin is the emitter of the onchip power NPN. At switch-off, the inductor will drive this pin below ground with a high dV/dt. An external Schottky catch diode to ground, close to the SW pin and respective VIN decoupling (See Datasheet)", 10 VIN2 (power) "The VIN2 pin is the collector of channel 2’s on-chip power NPN switch. This pin is independent of VIN1 and may be connected to the same or a separate supply. In either case, high dI/dt edges are present and decoupling t(See Datasheet)", 11 BST2 "The BST pin provides a higher than VIN base drive to the power NPN to ensure a low switch drop. A comparator to VIN imposes a minimum off-time on the SW pin if the BST pin voltage drops too low. Forcing a SW off-time allows (See Datasheet)", 12 SS/TRACK2 (in) "The SS1/2 pins control the softstart and sequence of their respective outputs. A single capacitor from the SS pin to ground determines the output ramp rate. For soft-start and output tracking/sequencing details, see the (See Datasheet)", 13 VC2 "The VC pin is the output of the error amplifier and the input to the peak switch current  comparator. It is normally used for frequency compensation, but can also be used as a current clamp or control loop override. If the (See Datasheet)", 14 FB2 (in) "The FB pin is the negative input to the error amplifier. The output switches regulate this pin to 0.8V, with respect to the exposed ground pad. Bias current flows out of the FB pin.", 15 SHDN (in) "The shutdown pin is used to turn off both channels and control circuitry to reduce quiescent current to a typical value of 9uA. The accurate 1.28V threshold and input current hysteresis can be used as an undervoltage (See Datasheet)", 16 RT/SYNC (in) "This RT/SYNC pin provides two modes of setting the constant switch frequency.", 17 FB1 (in) "The FB pin is the negative input to the error amplifier. The output switches regulate this pin to 0.8V, with respect to the exposed ground pad. Bias current flows out of the FB pin.", 18 VC1 "The VC pin is the output of the error amplifier and the input to the peak switch current  comparator. It is normally used for frequency compensation, but can also be used as a current clamp or control loop override. If the (See Datasheet)", 19 SS/TRACK1 (in) "The SS1/2 pins control the softstart and sequence of their respective outputs. A single capacitor from the SS pin to ground determines the output ramp rate. For soft-start and output tracking/sequencing details, see the (See Datasheet)", 20 BST1 "The BST pin provides a higher than VIN base drive to the power NPN to ensure a low switch drop. A comparator to VIN imposes a minimum off-time on the SW pin if the BST pin voltage drops too low. Forcing a SW off-time allows (See Datasheet)", 21 EP (power) "GND. The Exposed Pad GND pin is the only ground connection for the device. The Exposed Pad should be soldered to a large copper area to reduce thermal resistance. The GND pin is common to both channels and also serves as (See Datasheet)"

## LT3511EMS#PBF
designator U?
Monolithic High Voltage Isolated Flyback Converter, 16-pin SOP (MS-16-4PR), -40 to 125 degC, Pb-Free; Manufacturer: Linear Technology; PartNumber: LT3511EMS#PBF; Number of Outputs: 1; PackageReference: MS-16; PackageDescription: 12-Pin Plastic MSOP, Body 4.039 x 3 mm, Pitch 0.5 mm; Supplier 1: Digi-Key; Supplier Part Number 1: LT3511EMS#PBF-ND; RoHS: TRUE
footprint LT-MS-16-4PR_N (SOP, 12-Leads, Body 4.1x3.1mm, Pitch 0.5mm, IPC Medium Density)
footprint LT-MS-16-4PR_L (SOP, 12-Leads, Body 4.1x3.1mm, Pitch 0.5mm, IPC High Density)
footprint LT-MS-16-4PR_M (SOP, 12-Leads, Body 4.1x3.1mm, Pitch 0.5mm, IPC Low Density)
pins: 1 EN/UVLO (in) "Enable/Undervoltage Lockout. The EN/ UVLO pin is used to start up the LT3512/LT3511. Pull the pin to 0V to shut down the LT3512. This pin has an accurate 1.21V threshold and can be used to program an undervoltage lockout (See Datasheet)", 3 VIN (power) "Input Supply Pin. This pin supplies current to the internal start-up circuitry, and serves as a reference voltage for the DCM comparator and feedback circuitry. Must be locally bypassed with a capacitor.", 5 GND (power) "Ground Pins. All three pins should be tied directly to the local ground plane.", 6 BIAS (power) "Bias Voltage. This pin supplies current to the switch driver and internal circuitry of the LT3512/LT3511. This pin may also be connected to VIN if a third winding is not used and if VIN < 20V. The part can operate down to 4.(See Datasheet)", 7 NC, 8 GND (power) "Ground Pins. All three pins should be tied directly to the local ground plane.", 9 GND (power) "Ground Pins. All three pins should be tied directly to the local ground plane.", 10 VC "Compensation Pin for Internal Error Amplifier. Connect a series RC from this pin to ground to compensate the switching regulator. An additional 100pF capacitor from this pin to ground helps eliminate noise.", 11 TC "Output Voltage Temperature Compensation. Connect a resistor to ground to produce a current proportional to absolute temperature to be sourced into the RREF node. ITC = 0.55V/RTC.", 12 RREF (in) "Input Pin for External Ground-Referred Reference Resistor. The resistor at this pin should be 10k. For nonisolated applications, a traditional resistor voltage divider from VOUT may be connected to this pin.", 14 RFB (in) "Input Pin for External Feedback Resistor. This pin is connected to the transformer primary (VSW). The ratio of this resistor to the RREF resistor, times the internal bandgap reference, determines the output voltage (plus the (See Datasheet)", 16 SW (power) "Switch Pin. Collector of the internal power switch. Minimize trace area at this pin to minimize EMI and voltage spikes."